# Altium schematic symbol library ADG417.SchLib: 1 symbol
Pins are listed as number, name and electrical type; pins without a type are passive.

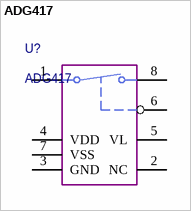
[diagram p0: symbol ADG417]

## ADG417
designator U?
pins: 1 S, 2 NC, 3 GND, 4 VDD, 5 VL, 6 IN, 7 VSS, 8 D